# EAGLE library part PLD_1X06 (library barthess)
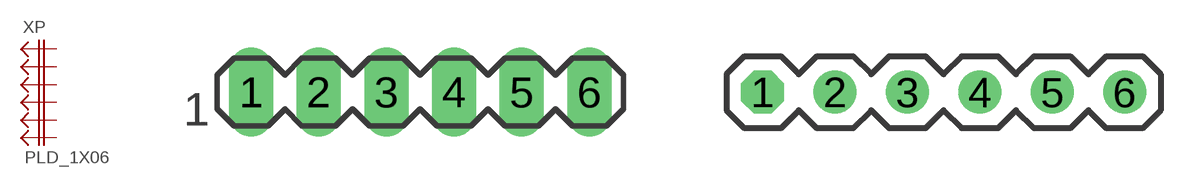
[diagram p26: symbol with the pads of PLD_1X06_LONGPAD; footprints PLD_1X06_LONGPAD, PLD_1X06]

Designator prefix XP

## PLD_1X06LONGPAD  [PLD_1X06_LONGPAD]
1  1  pas
2  2  pas
3  3  pas
4  4  pas
5  5  pas
6  6  pas

## PLD_1X06 (PARTNO: ?)  [PLD_1X06]
Pads as for PLD_1X06_LONGPAD

## Footprint PLD_1X06_LONGPAD (pad centres in mm)
drill 1.118 long: 1 0,0; 2 2.54,0; 3 5.08,0; 4 7.62,0; 5 10.16,0; 6 12.7,0

## Footprint PLD_1X06 (pad centres in mm)
drill 1 octagon: 1 0,0
drill 1: 2 2.54,0; 3 5.08,0; 4 7.62,0; 5 10.16,0; 6 12.7,0